# Altium schematic symbol library BD_PCB.SchLib: 1 symbol
Pins are listed as number, name and electrical type; pins without a type are passive.

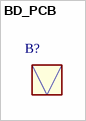
[diagram p0: symbol BD_PCB]

## BD_PCB
designator B?